# Altium footprint library Xtal.PcbLib: 10 footprints
Each footprint in its own frame and in the unit in brackets; x right, y up, seen from the top. Pads: shape width x height; smd on the part's side, far side on the other; paste and mask are expansions set on the pad; w line width, h text height; cw(c..) or ccw(c..) is an arc to the next point about the centre after c.
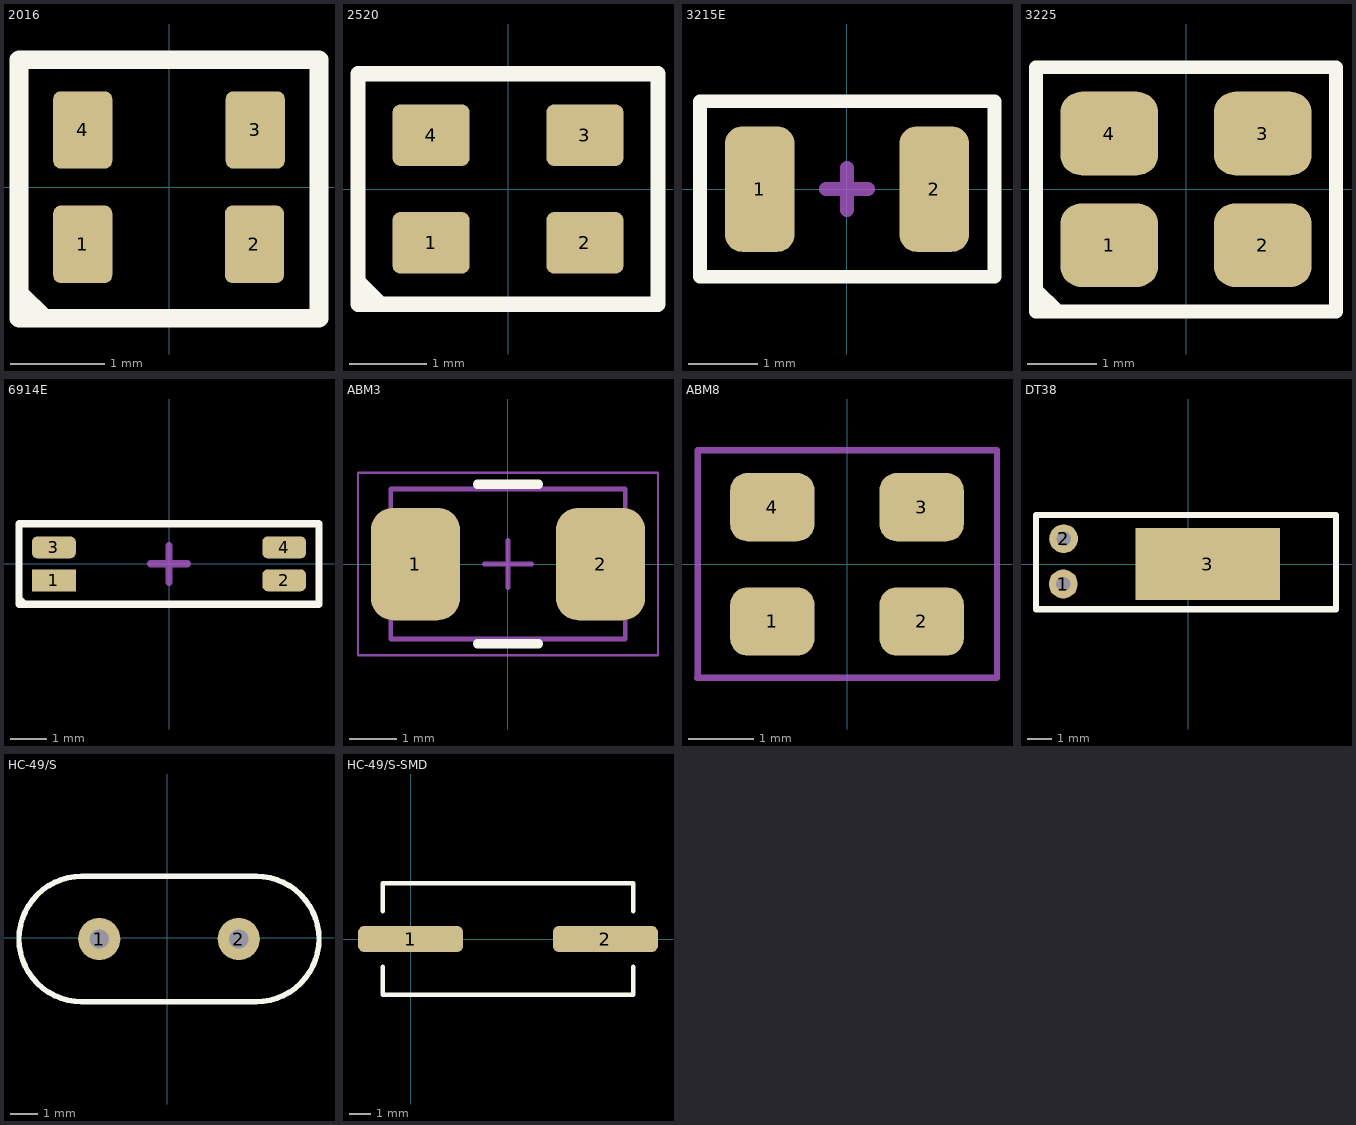
[diagram p0: the footprints below, top view; thin cyan lines are the x and y axes]

## 2016 [mm] "Compact and thin 2.0 x 1.6 x 0.8mm"
height 0.8
pads (4):
  rrect25% 0.63x0.825 smd mask+0.05: 1(-0.92,-0.61) 2(0.91,-0.61) 3(0.92,0.61) 4(-0.92,0.61)
Top Overlay:
  lines w0.2: -1.6,-1.4 1.6,-1.4 ; -1.6,-1.39 -1.6,1.36 1.6,1.36 1.6,-1.39 ; -1.595,-1.135 -1.335,-1.395
3D body "User Library-TG-5006CJ.step": height 0.73, standoff 0, extent -1,-0.8 1,0.8

## 2520 [mm] "Compact and thin 2.5 x 2.0 x 0.8mm"
height 0.8
pads (4):
  rrect25% 1x0.8 smd mask+0.05: 1(-1,-0.7) 2(1,-0.7) 3(1,0.7) 4(-1,0.7)
Top Overlay:
  lines w0.2: -1.65,-1.5 -1.95,-1.2 ; -1.95,-1.2 -1.95,-1.2 ; -1.95,-1.5 -1.95,1.5 1.95,1.5 1.95,-1.5 -1.95,-1.5
3D body "User Library-SM2520-4.step": height 0.8, standoff -0.03, extent -1.25,-1 1.25,1

## 3215E [mm] "Compact and thin 3.2 x 1.5 x 0.8mm"
height 0.8
pads (2):
  rrect50% 1x1.8 smd mask+0.05: 1(-1.25,0) 2(1.25,0)
Top Overlay:
  lines w0.2: -2.105,-1.257 -2.105,1.258 2.116,1.258 2.116,-1.257 -2.105,-1.257
Mechanical 15:
  lines w0.2: -0.3,0 0.3,0 ; 0.001,-0.3 0.001,0.3
3D body "User Library-FX135A-327.step": height 0.9, standoff -0.01, extent -1.59,-0.75 1.61,0.75

## 3225 [mm] "Compact and thin 3.2 x 2.5 x 0.75mm"
height 0.75
pads (4):
  rrect50% 1.4x1.2 smd mask+0.05: 1(-1.1,-0.8) 2(1.1,-0.8) 3(1.1,0.8) 4(-1.1,0.8)
Top Overlay:
  lines w0.2: -2.149,-1.439 -1.849,-1.739 ; -2.15,-1.75 2.15,-1.75 2.15,1.75 -2.15,1.75 -2.15,-1.75
Mechanical 15:
  lines w0.1: -2.1,-1.75 -2.1,1.76 2.1,1.76 2.1,-1.75 -2.1,-1.75
3D body "User Library-NX3225SA.step": height 0.66, standoff 0, extent -1.6,-1.26 1.6,1.24

## 6914E [mm] "Compact 6.9 x 1.4 x 1.4mm"
height 1.4
pads (4):
  rect 1.2x0.6 smd mask+0.05: 1(-3.15,-0.45)
  rrect50% 1.2x0.6 smd mask+0.05: 2(3.15,-0.45) 3(-3.15,0.45) 4(3.15,0.45)
Top Overlay:
  lines w0.2: -4.099,-0.959 -3.966,-1.104 ; -4.104,-1.105 4.102,-1.105 4.102,1.097 -4.104,1.097 -4.104,-1.105
Mechanical 15:
  lines w0.2: -0.5,0 0.5,0 ; 0.001,-0.5 0.001,0.5
3D body "User Library-MC146.step": height 1.4, standoff 0, extent -3.5,-0.75 3.5,0.75

## ABM3 [mm] "MINIATURE CERAMIC SMD CRYSTAL, 2-Leads, Body 5,00x3,20mm, IPC Medium Density"
height 1.3
pads (2):
  rrect50% 1.9x2.4 smd: 1(-1.975,0) 2(1.975,0)
Top Overlay:
  lines w0.2: -0.65,-1.702 0.65,-1.702 ; -0.65,1.702 0.65,1.702
Mechanical 13:
  lines w0.1: -2.5,-1.6 -2.5,1.6 2.5,1.6 2.5,-1.6 -2.5,-1.6
Mechanical 15:
  lines w0.05: -3.2,-1.95 -3.2,1.95 3.2,1.95 3.2,-1.95 -3.2,-1.95
  lines w0.1: -0.5,0 0.5,0 ; 0,-0.5 0,0.5
3D body "ABM3.step": height 0, standoff 0, extent 0,0 0,0
3D body "User Library-ABM3-1.STEP": height 1.3, standoff 0, extent -2.5,-1.6 2.5,1.6

## ABM8 [mm] "Compact and thin 3.2 x 2.5 x 0.8mm"
height 0.8
pads (4):
  rrect50% 1.3x1.05 smd: 1(-1.15,-0.88) 2(1.15,-0.88) 3(1.15,0.88) 4(-1.15,0.88)
Mechanical 15:
  lines w0.1: -2.31,-1.75 2.3,-1.75 ; -2.3,-1.75 -2.3,1.76 2.31,1.76 2.31,-1.75
3D body "User Library-XTAL-3_2x2_5.step": height 0.91, standoff -0.01, extent -1.6,-1.25 1.6,1.25

## DT38 [mm]
pads (3):
  round 1.2 hole 0.6: 1(-5.19,-0.83) 2(-5.172,1.049)
  rect 6x3 smd: 3(0.8,0)
Top Overlay:
  lines w0.254: -6.32,-1.88 -6.32,2.04 6.13,2.04 6.13,-1.88 -6.32,-1.88
3D body "DT-38T.STEP": height 3, standoff -2.5, extent -5.271,-1.397 5.779,1.603

## HC-49/S [mm]
pads (2):
  round 1.54 hole 0.7: 1(-2.48,-0.04) 2(2.6,-0.04)
Top Overlay:
  lines w0.2: -3.115,-2.326 cw(c-3.115,-0.04) -3.115,2.246 3.235,2.246 cw(c3.235,-0.04) 3.235,-2.326 -3.115,-2.326
3D body "HC-49.STEP": height 3.5, standoff -3, extent -5.4,-2.25 5.4,2.25

## HC-49/S-SMD [mm]
pads (2):
  rrect50% 4.8x1.2 smd: 1(0,0) 2(8.89,0)
Mid-Layer 1:
  lines w0.2: -1.27,-2.54 9.525,-2.54 10.16,-2.54 ; -1.27,2.54 10.16,2.54
Top Overlay:
  lines w0.2: -1.27,-1.27 -1.27,-2.54 9.525,-2.54 10.16,-2.54 10.16,-1.27 ; -1.27,1.27 -1.27,2.54 10.16,2.54 10.16,1.27
3D body "HC-49SM.STEP": height 4.3, standoff 0, extent -2.155,-2.4 11.045,2.4